# Altium footprint library JUMP1.PcbLib: 1 footprints
Each footprint in its own frame and in the unit in brackets; x right, y up, seen from the top. Pads: shape width x height; smd on the part's side, far side on the other; paste and mask are expansions set on the pad; w line width, h text height; cw(c..) or ccw(c..) is an arc to the next point about the centre after c.
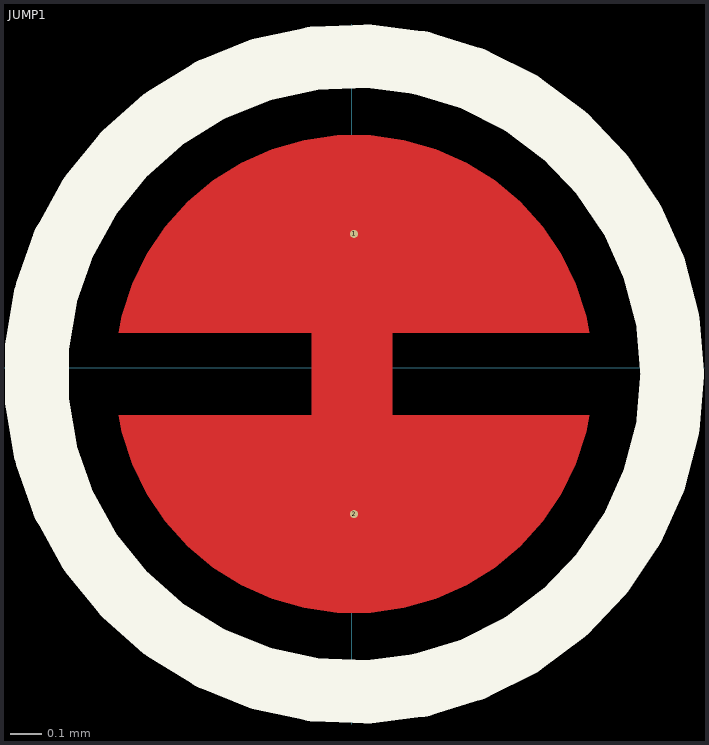
[diagram p0: the footprint, top view; thin cyan lines are the x and y axes]

## JUMP1 [mil]
pads (2):
  round 1 smd: 1(0.25,16.56) 2(0.25,-18.09)
Top Layer:
  region: -28.83,4.36 -28.47,6.4 -27.19,10.32 -25.38,14.03 -23.08,17.46 -20.31,20.53 -17.15,23.18 -13.65,25.37 -9.87,27.05 -5.9,28.19 -1.82,28.76 2.31,28.76 6.4,28.19 10.37,27.05 14.15,25.37 17.65,23.18 20.81,20.53 23.57,17.46 25.88,14.03 27.69,10.32 28.97,6.4 29.33,4.36
  region: 29.33,-5.89 28.97,-7.93 27.69,-11.85 25.88,-15.57 23.57,-18.99 20.81,-22.06 17.65,-24.71 14.15,-26.9 10.37,-28.58 6.4,-29.72 2.31,-30.29 -1.82,-30.29 -5.9,-29.72 -9.87,-28.58 -13.65,-26.9 -17.15,-24.71 -20.31,-22.06 -23.08,-18.99 -25.38,-15.57 -27.19,-11.85 -28.47,-7.93 -28.83,-5.89
  lines w10: 0.01,4.39 ccw(c0.01,4.34) -0.04,4.34 cw(c-0.04,4.3) 0,4.3 0,-6.75 ccw(c0.04,-6.75) 0.04,-6.79
Top Overlay:
  circle w7.87: c0.25,-0.77 r39.37